# Altium footprint library R DIP .PcbLib: 2 footprints
Each footprint in its own frame and in the unit in brackets; x right, y up, seen from the top. Pads: shape width x height; smd on the part's side, far side on the other; paste and mask are expansions set on the pad; w line width, h text height; cw(c..) or ccw(c..) is an arc to the next point about the centre after c.
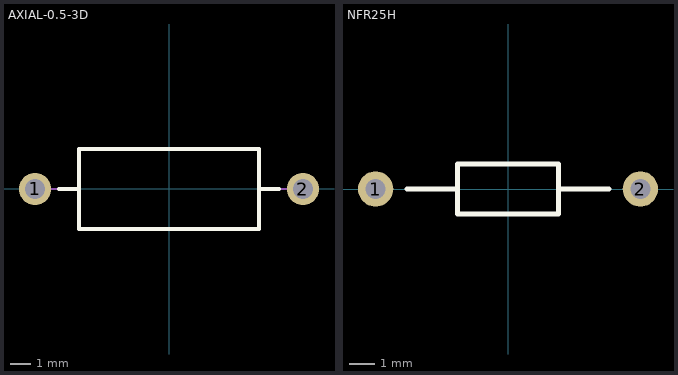
[diagram p0: the footprints below, top view; thin cyan lines are the x and y axes]

## AXIAL-0.5-3D [mm] "8x2.5mm body, 12.5mm pitch"
pads (2):
  round 1.6 hole 1: 1(-6.687,0) 2(6.687,0)
Top Overlay:
  lines w0.2: -5.5,0 -4.5,0 ; 4.5,0 5.5,0 ; -4.5,0 -4.5,-2 4.5,-2 4.5,2 -4.5,2 -4.5,0
Mechanical 15:
  lines w0.1: -4.5,0 -6.5,0 ; 4.5,0 6.5,0 ; -6.5,0 -6.5,0 ; 6.5,0 6.5,0 ; -4.5,-2 -4.5,2 4.5,2 4.5,-2 -4.5,-2
3D body: height 4.3, standoff -5.08, extent -6.687,-1.875 6.763,1.875

## NFR25H [mm] "0.5W, 10.5mm pitch, D=2.5mm, L1=6.5mm"
pads (2):
  round 1.4 hole 0.8: 1(-5.25,0) 2(5.25,0)
Top Overlay:
  lines w0.2: -4,0 -2,0 ; 2,0 4,0 ; -2,0 -2,-1 2,-1 2,-0.5 2,1 -2,1 -2,0
3D body: height 2.75, standoff -1.15, extent -5.497,-1.25 5.497,1.25